# EAGLE library part STC3100 (library stc3100)
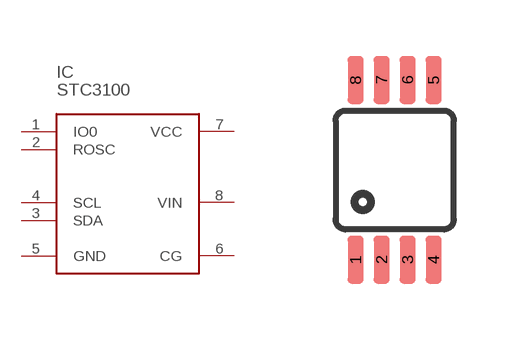
[diagram p0: symbol with the pads of MSOP8; footprint MSOP8]

Designator prefix IC

## STC3100  [MSOP8]
1  IO0
2  ROSC
3  SDA
4  SCL
5  GND  pwr
6  CG  in
7  VCC  pwr
8  VIN  in

## Footprint MSOP8 (pad centres in mm)
8M, 8-Lead, 0.118" Wide, Miniature Small Outline Package MSOP 8M-Package doc1097.pdf
smd 0.4 x 1.2: 1 -0.975,-2.25; 2 -0.325,-2.25; 3 0.325,-2.25; 4 0.975,-2.25; 5 0.975,2.25; 6 0.325,2.25; 7 -0.325,2.25; 8 -0.975,2.25